# Altium schematic symbol library PowerSupply.SchLib: 20 symbols
Pins are listed as number, name and electrical type; pins without a type are passive.

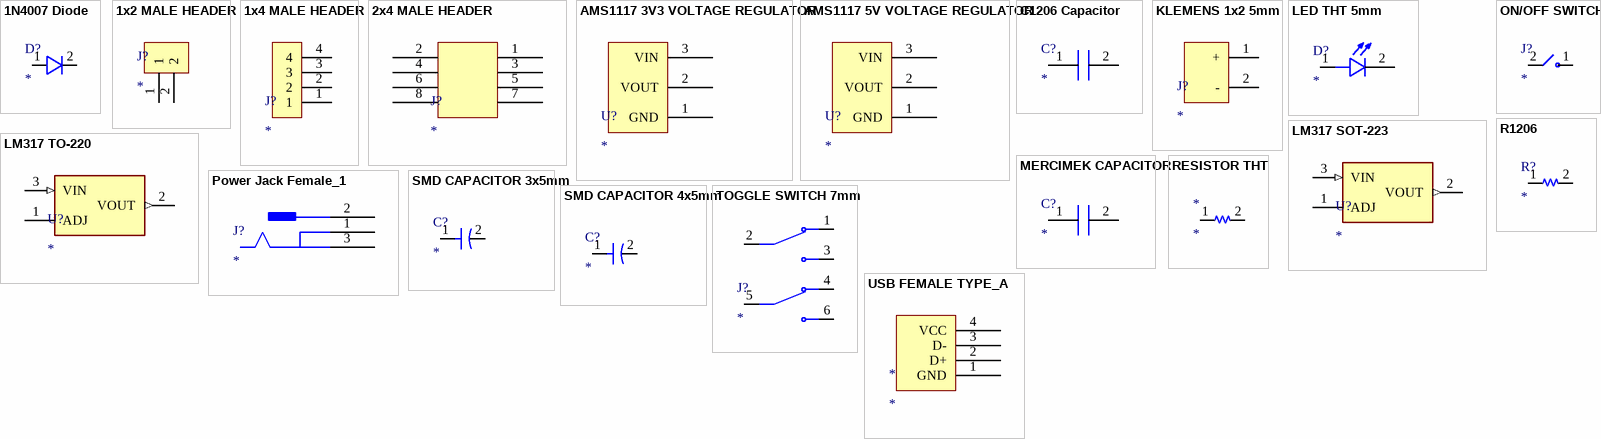
[diagram p0: symbols 1N4007 Diode to USB FEMALE TYPE_A]

## 1N4007 Diode
designator D?
footprint 1N4007 Diode
pins: 1, 2

## 1x2 MALE HEADER
designator J?
footprint 1x2 MALE HEADER - duplicate
pins: 1, 2

## 1x4 MALE HEADER
designator J?
footprint 1x4 MALE HEADER
pins: 1, 2, 3, 4

## 2x4 MALE HEADER
designator J?
footprint 2x4 Male header
pins: 1, 2, 3, 4, 5, 6, 7, 8

## AMS1117 3V3 VOLTAGE REGULATOR
designator U?
footprint AMS1117 VOLTAGE REGULATOR
pins: 1 GND, 2 VOUT, 3 VIN

## AMS1117 5V VOLTAGE REGULATOR
designator U?
footprint AMS1117 VOLTAGE REGULATOR
pins: 1 GND, 2 VOUT, 3 VIN

## C1206 Capacitor
designator C?
footprint C1206
pins: 1, 2

## KLEMENS 1x2 5mm
designator J?
footprint KLEMENS 1x2 5mm
pins: 1 +, 2 -

## LED THT 5mm
designator D?
footprint LED THT
pins: 1 A, 2 C

## LM317 SOT-223
designator U?
footprint LM317 SOT-223
pins: 1 ADJ, 2 VOUT (out), 3 VIN (in)

## LM317 TO-220
designator U?
footprint LM317 TO-220
pins: 1 ADJ, 2 VOUT (out), 3 VIN (in)

## MERCIMEK CAPACITOR
designator C?
footprint MERCIMEK CAPACITOR
pins: 1, 2

## ON/OFF SWITCH
designator J?
footprint ON/OFF SWITCH
pins: 1 NO, 2 COM

## Power Jack Female_1
designator J?
footprint Power Jack Female
pins: 1, 2 VCC, 3

## R1206
designator R?
footprint R1206 Resıstor
pins: 1, 2

## RESISTOR THT
designator *
footprint RESISTOR THT
pins: 1, 2

## SMD CAPACITOR 3x5mm
designator C?
footprint SMD CAPACITOR 3x5 mm
pins: 1, 2

## SMD CAPACITOR 4x5mm
designator C?
footprint SMD CAPACITOR 4x5 mm
pins: 1, 2

## TOGGLE SWITCH 7mm
designator J?
footprint TOGGLE SWITCH 7mm
pins: 1 NC1, 2 COM1, 3 NO1, 4 NC2, 5 COM2, 6 NO2

## USB FEMALE TYPE_A
designator *
footprint USB FEMALE TYPE_A
pins: 1 GND, 2 D+, 3 D-, 4 VCC